# Altium schematic symbol library LP324D.SchLib: 1 symbol
Pins are listed as number, name and electrical type; pins without a type are passive.

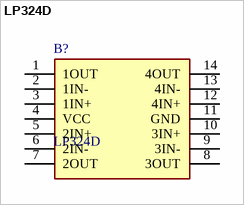
[diagram p0: symbol LP324D]

## LP324D
designator B?
Texas Instruments LP324D, Quad Op Amp, 0.1MHz, 5  28 V, 14-Pin SOIC; Geometry.Height: 1.75mm; Mouser Part Number: 595-LP324D; Mouser Price/Stock: https://www.mouser.com/Search/Refine.aspx?Keyword=595-LP324D; Manufacturer_Name: Texas Instruments; Manufacturer_Part_Number: LP324D; Datasheet Link: https://www.ti.com/lit/ds/symlink/lp324.pdf?ts=1617974975875&ref_url=https%253A%252F%252Fwww.ti.com%252Fproduct%252FLP324
footprint SOIC127P600X175-14N
pins: 1 1OUT, 2 1IN-, 3 1IN+, 4 VCC, 5 2IN+, 6 2IN-, 7 2OUT, 8 3OUT, 9 3IN-, 10 3IN+, 11 GND, 12 4IN+, 13 4IN-, 14 4OUT